# Altium schematic symbol library 1NT251A2.Schlib: 1 symbol
Pins are listed as number, name and electrical type; pins without a type are passive.

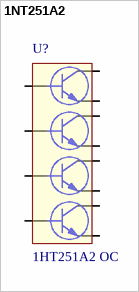
[diagram p0: symbol 1NT251A2]

## 1NT251A2
designator U?, comment 1HT251A2 ОС
Назначение: Транзисторная сборка; Наименование: 1HT251A2 ОС
footprint 14PIN FLATPACK
pins: 2, 3, 4, 5, 6, 7, 9, 10, 11, 12, 13, 14